# Altium schematic symbol library sym-0024.SchLib: 1 symbol
Pins are listed as number, name and electrical type; pins without a type are passive.

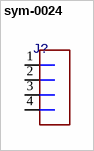
[diagram p0: symbol sym-0024]

## sym-0024
designator J?
General 4-Pin Connector
pins: 1, 2, 3, 4
2 alternate drawings of the same symbol